# Altium schematic symbol library LCD1602.SchLib: 1 symbol
Pins are listed as number, name and electrical type; pins without a type are passive.

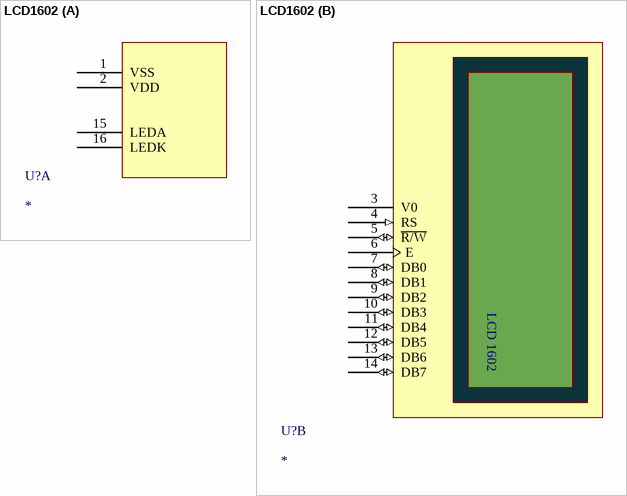
[diagram p0: symbol LCD1602]

## LCD1602
designator U?
Manufacturer: UNIVERSAL-SOLDER Electronics Ltd; Number of Characters: 32; Display Format: 16 x 2; Character Format: 5 x 8 Dots; Display Type: STN - Super-Twisted Nematic; Character Size: 5.15mm H x 2.90mm W; Outline L x W x H: 80.00mm x 36.00mm x 11.00mm; Viewing Area: 55.70mm L x 11.00mm W; Backlight: LED - Yellow/Green; Voltage - Supply: 4.5V ~ 5.5V; Dot Size: 0.55mm W x 0.65mm H; Controller Type: HD44780; Operating Temperature: -20°C ~ 70°C; Parameter 1: *
footprint PCBComponent_1
part A pins: 1 VSS, 2 VDD, 15 LEDA, 16 LEDK
part B pins: 3 V0, 4 RS (in), 5 ~{R/W} (io), 6 E, 7 DB0 (io), 8 DB1 (io), 9 DB2 (io), 10 DB3 (io), 11 DB4 (io), 12 DB5 (io), 13 DB6 (io), 14 DB7 (io)
part B text: LCD 1602